# Altium footprint library CONN_39511-1009_MOL.PcbLib: 1 footprints
Each footprint in its own frame and in the unit in brackets; x right, y up, seen from the top. Pads: shape width x height; smd on the part's side, far side on the other; paste and mask are expansions set on the pad; w line width, h text height; cw(c..) or ccw(c..) is an arc to the next point about the centre after c.
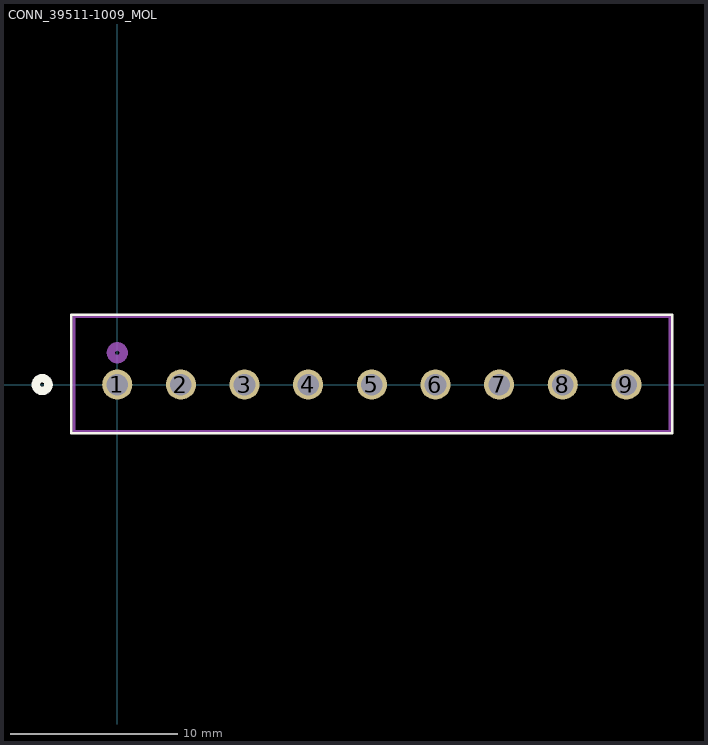
[diagram p0: the footprint, top view; thin cyan lines are the x and y axes]

## CONN_39511-1009_MOL [mil]
pads (9):
  round 71 hole 51: 1(0,0) 2(150,0) 3(300,0) 4(450,0) 5(600,0) 6(750,0) 7(900,0) 8(1050,0) 9(1200,0)
Top Overlay:
  lines w6: -108,-115 1308,-115 1308,165 -108,165 -108,-115
  lines w20: -192,0 ccw(c-177,0) -162,0 ccw(c-177,0) -192,0
Bottom Overlay:
  lines w20: -192,0 ccw(c-177,0) -162,0 ccw(c-177,0) -192,0
Assembly Top:
  lines w6: -102,-110 1302,-110 1302,160 -102,160 -102,-110
  lines w20: -15,75 ccw(c0,75) 15,75 ccw(c0,75) -15,75
3D body "395111009.stp": height 360, standoff -140, extent -102.36,-110 1302.36,160